# Altium schematic symbol library austriamicrosystems.SCHLIB: 2 symbols
Pins are listed as number, name and electrical type; pins without a type are passive.

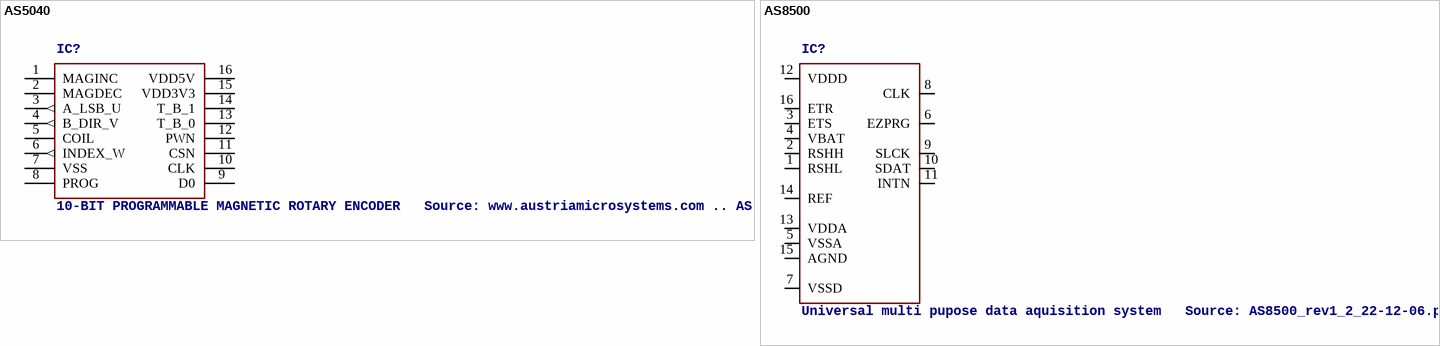
[diagram p0: symbols AS5040 to AS8500]

## AS5040
designator IC?, comment 10-BIT PROGRAMMABLE MAGNETIC ROTARY ENCODER   Source: www.austriamicrosystems.com .. AS5040DataSheetRev12.pdf
MPN: AS5040ASSU; OC_FARNELL: 1630800; OC_NEWARK: 59P4059
footprint SSOP16
pins: 1 MAGINC (hiz), 2 MAGDEC (hiz), 3 A_LSB_U (out), 4 B_DIR_V (out), 5 COIL, 6 INDEX_W (out), 7 VSS, 8 PROG, 9 D0 (hiz), 10 CLK, 11 CSN, 12 PWN, 13 T_B_0, 14 T_B_1, 15 VDD3V3, 16 VDD5V

## AS8500
designator IC?, comment Universal multi pupose data aquisition system   Source: AS8500_rev1_2_22-12-06.pdf
MPN: AS8500ASOT; OC_FARNELL: unknown; OC_NEWARK: 59P4095
footprint SO16W
pins: 1 RSHL, 2 RSHH, 3 ETS, 4 VBAT, 5 VSSA (power), 6 EZPRG, 7 VSSD (power), 8 CLK, 9 SLCK, 10 SDAT, 11 INTN, 12 VDDD (power), 13 VDDA (power), 14 REF, 15 AGND (power), 16 ETR